# EAGLE library part CY62256LL-?* (library memory-sram)
256K (32K x 8) CMOS-Static RAM Source: http://download.cypress.com.edgesuite.net/design_resources/datasheets/contents/cy62256_8.pdf
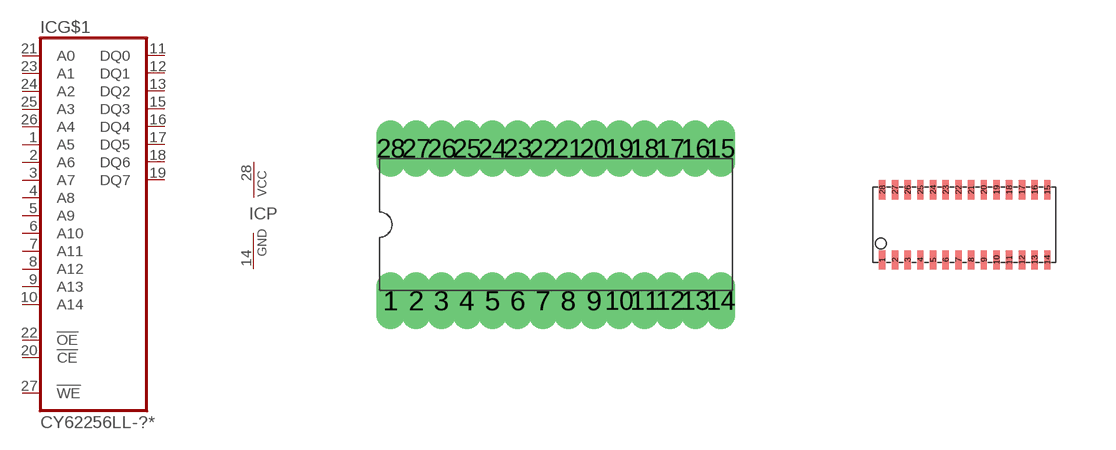
[diagram p5: symbol with the pads of DIL28-6; footprints DIL28-6, SOJ28/3]

Designator prefix IC; gates G$1=LH52256 P=PWRN

## CY62256LL-P, CY62256LL-PC, CY62256LL-PXC  [DIL28-6]
1  G$1:A5  in
2  G$1:A6  in
3  G$1:A7  in
4  G$1:A8  in
5  G$1:A9  in
6  G$1:A10  in
7  G$1:A11  in
8  G$1:A12  in
9  G$1:A13  in
10  G$1:A14  in
11  G$1:DQ0
12  G$1:DQ1
13  G$1:DQ2
14  P:GND  pwr
15  G$1:DQ3
16  G$1:DQ4
17  G$1:DQ5
18  G$1:DQ6
19  G$1:DQ7
20  G$1:!CE  in
21  G$1:A0  in
22  G$1:!OE  in
23  G$1:A1  in
24  G$1:A2  in
25  G$1:A3  in
26  G$1:A4  in
27  G$1:!WE  in
28  P:VCC  pwr

## CY62256LL-S, CY62256LL-SNC, CY62256LL-SNE, CY62256LL-SNI, CY62256LL-SNXC, CY62256LL-SNXE, CY62256LL-SNXI  [SOJ28/3]
Pads as for DIL28-6

## CY62256LL-Z, CY62256LL-ZC, CY62256LL-ZE, CY62256LL-ZXC, CY62256LL-ZXE, CY62256LL-ZXI  [TSOP1-28]
Pads as for DIL28-6

## CY62256LL-ZR, CY62256LL-ZRI, CY62256LL-ZRXE, CY62256LL-ZRXI  [TSOP1-28-R]
Pads as for DIL28-6

## Footprint DIL28-6 (pad centres in mm)
Dual In Line Package 0.6 inch
drill 0.203 long: 1 -4.128,-1.905; 2 -3.493,-1.905; 3 -2.857,-1.905; 4 -2.223,-1.905; 5 -1.587,-1.905; 6 -0.953,-1.905; 7 -0.318,-1.905; 8 0.318,-1.905; 9 0.953,-1.905; 10 1.587,-1.905; 11 2.223,-1.905; 12 2.857,-1.905; 13 3.493,-1.905; 14 4.128,-1.905; 15 4.128,1.905; 16 3.493,1.905; 17 2.857,1.905; 18 2.223,1.905; 19 1.587,1.905; 20 0.953,1.905; 21 0.318,1.905; 22 -0.318,1.905; 23 -0.953,1.905; 24 -1.587,1.905; 25 -2.223,1.905; 26 -2.857,1.905; 27 -3.493,1.905; 28 -4.128,1.905

## Footprint SOJ28/3 (pad centres in mm)
Small Outline J-Bend
smd 0.159 x 0.476: 1 -2.064,-0.876; 2 -1.746,-0.876; 3 -1.429,-0.876; 4 -1.111,-0.876; 5 -0.794,-0.876; 6 -0.476,-0.876; 7 -0.159,-0.876; 8 0.159,-0.876; 9 0.476,-0.876; 10 0.794,-0.876; 11 1.111,-0.876; 12 1.429,-0.876; 13 1.746,-0.876; 14 2.064,-0.876; 15 2.064,0.876; 16 1.746,0.876; 17 1.429,0.876; 18 1.111,0.876; 19 0.794,0.876; 20 0.476,0.876; 21 0.159,0.876; 22 -0.159,0.876; 23 -0.476,0.876; 24 -0.794,0.876; 25 -1.111,0.876; 26 -1.429,0.876; 27 -1.746,0.876; 28 -2.064,0.876

## Footprint TSOP1-28 (pad centres in mm)
TSOP 1-28 28-pin Thin Small Outline Package Type 1 (8 x 13.4 mm) (51-85071) Source: http://download.cypress.com.edgesuite.net/design_resources/datasheets/contents/cy62256_8.pdf
smd 0.25 x 0.075: 1 -1.625,-0.069; 2 -1.625,-0.206; 3 -1.625,-0.344; 4 -1.625,-0.481; 5 -1.625,-0.619; 6 -1.625,-0.756; 7 -1.625,-0.894; 8 1.625,-0.894; 9 1.625,-0.756; 10 1.625,-0.619; 11 1.625,-0.481; 12 1.625,-0.344; 13 1.625,-0.206; 14 1.625,-0.069; 15 1.625,0.069; 16 1.625,0.206; 17 1.625,0.344; 18 1.625,0.481; 19 1.625,0.619; 20 1.625,0.756; 21 1.625,0.894; 22 -1.625,0.894; 23 -1.625,0.756; 24 -1.625,0.619; 25 -1.625,0.481; 26 -1.625,0.344; 27 -1.625,0.206; 28 -1.625,0.069

## Footprint TSOP1-28-R (pad centres in mm)
TSOP 1-28 R 28-pin Reverse Thin Small Outline Package Type 1 (8x13.4 mm) (51-85074) Source: http://download.cypress.com.edgesuite.net/design_resources/datasheets/contents/cy62256_8.pdf
smd 0.25 x 0.075: 1 -1.625,0.069; 2 -1.625,0.206; 3 -1.625,0.344; 4 -1.625,0.481; 5 -1.625,0.619; 6 -1.625,0.756; 7 -1.625,0.894; 8 1.625,0.894; 9 1.625,0.756; 10 1.625,0.619; 11 1.625,0.481; 12 1.625,0.344; 13 1.625,0.206; 14 1.625,0.069; 15 1.625,-0.069; 16 1.625,-0.206; 17 1.625,-0.344; 18 1.625,-0.481; 19 1.625,-0.619; 20 1.625,-0.756; 21 1.625,-0.894; 22 -1.625,-0.894; 23 -1.625,-0.756; 24 -1.625,-0.619; 25 -1.625,-0.481; 26 -1.625,-0.344; 27 -1.625,-0.206; 28 -1.625,-0.069